# Altium integrated library 1N5819HW-7-F.IntLib: 1 symbol
Pins are listed as number, name and electrical type; pins without a type are passive.

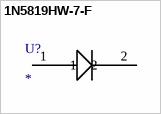
[diagram p0: symbol 1N5819HW-7-F]

## 1N5819HW-7-F
designator U?
No Description Available; Mfr_Name: Diodes Inc; RefDes: RefDes; Type: Type
footprint 1N5819HW-7-F_DIO
pins: 1, 2